# Altium schematic symbol library AUDIO_AMP_TAS5806M.Schlib: 1 symbol
Pins are listed as number, name and electrical type; pins without a type are passive.

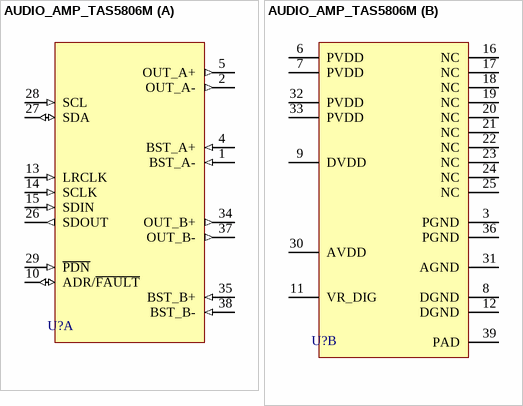
[diagram p0: symbol AUDIO_AMP_TAS5806M]

## AUDIO_AMP_TAS5806M
designator U?
part A pins: 1 BST_A- (in), 2 OUT_A- (out), 4 BST_A+ (in), 5 OUT_A+ (out), 10 ADR/~{FAULT} (io), 13 LRCLK (in), 14 SCLK (in), 15 SDIN (in), 26 SDOUT (out), 27 SDA (io), 28 SCL (in), 29 ~{PDN} (in), 34 OUT_B+ (out), 35 BST_B+ (in), 37 OUT_B- (out), 38 BST_B- (in)
part B pins: 3 PGND, 6 PVDD, 7 PVDD, 8 DGND, 9 DVDD, 11 VR_DIG, 12 DGND, 16 NC, 17 NC, 18 NC, 19 NC, 20 NC, 21 NC, 22 NC, 23 NC, 24 NC, 25 NC, 30 AVDD, 31 AGND, 32 PVDD, 33 PVDD, 36 PGND, 39 PAD